# Altium integrated library Linear Technology Power Management LDO Linear Regulators.IntLib: 2339 symbols (part 121 of 131)
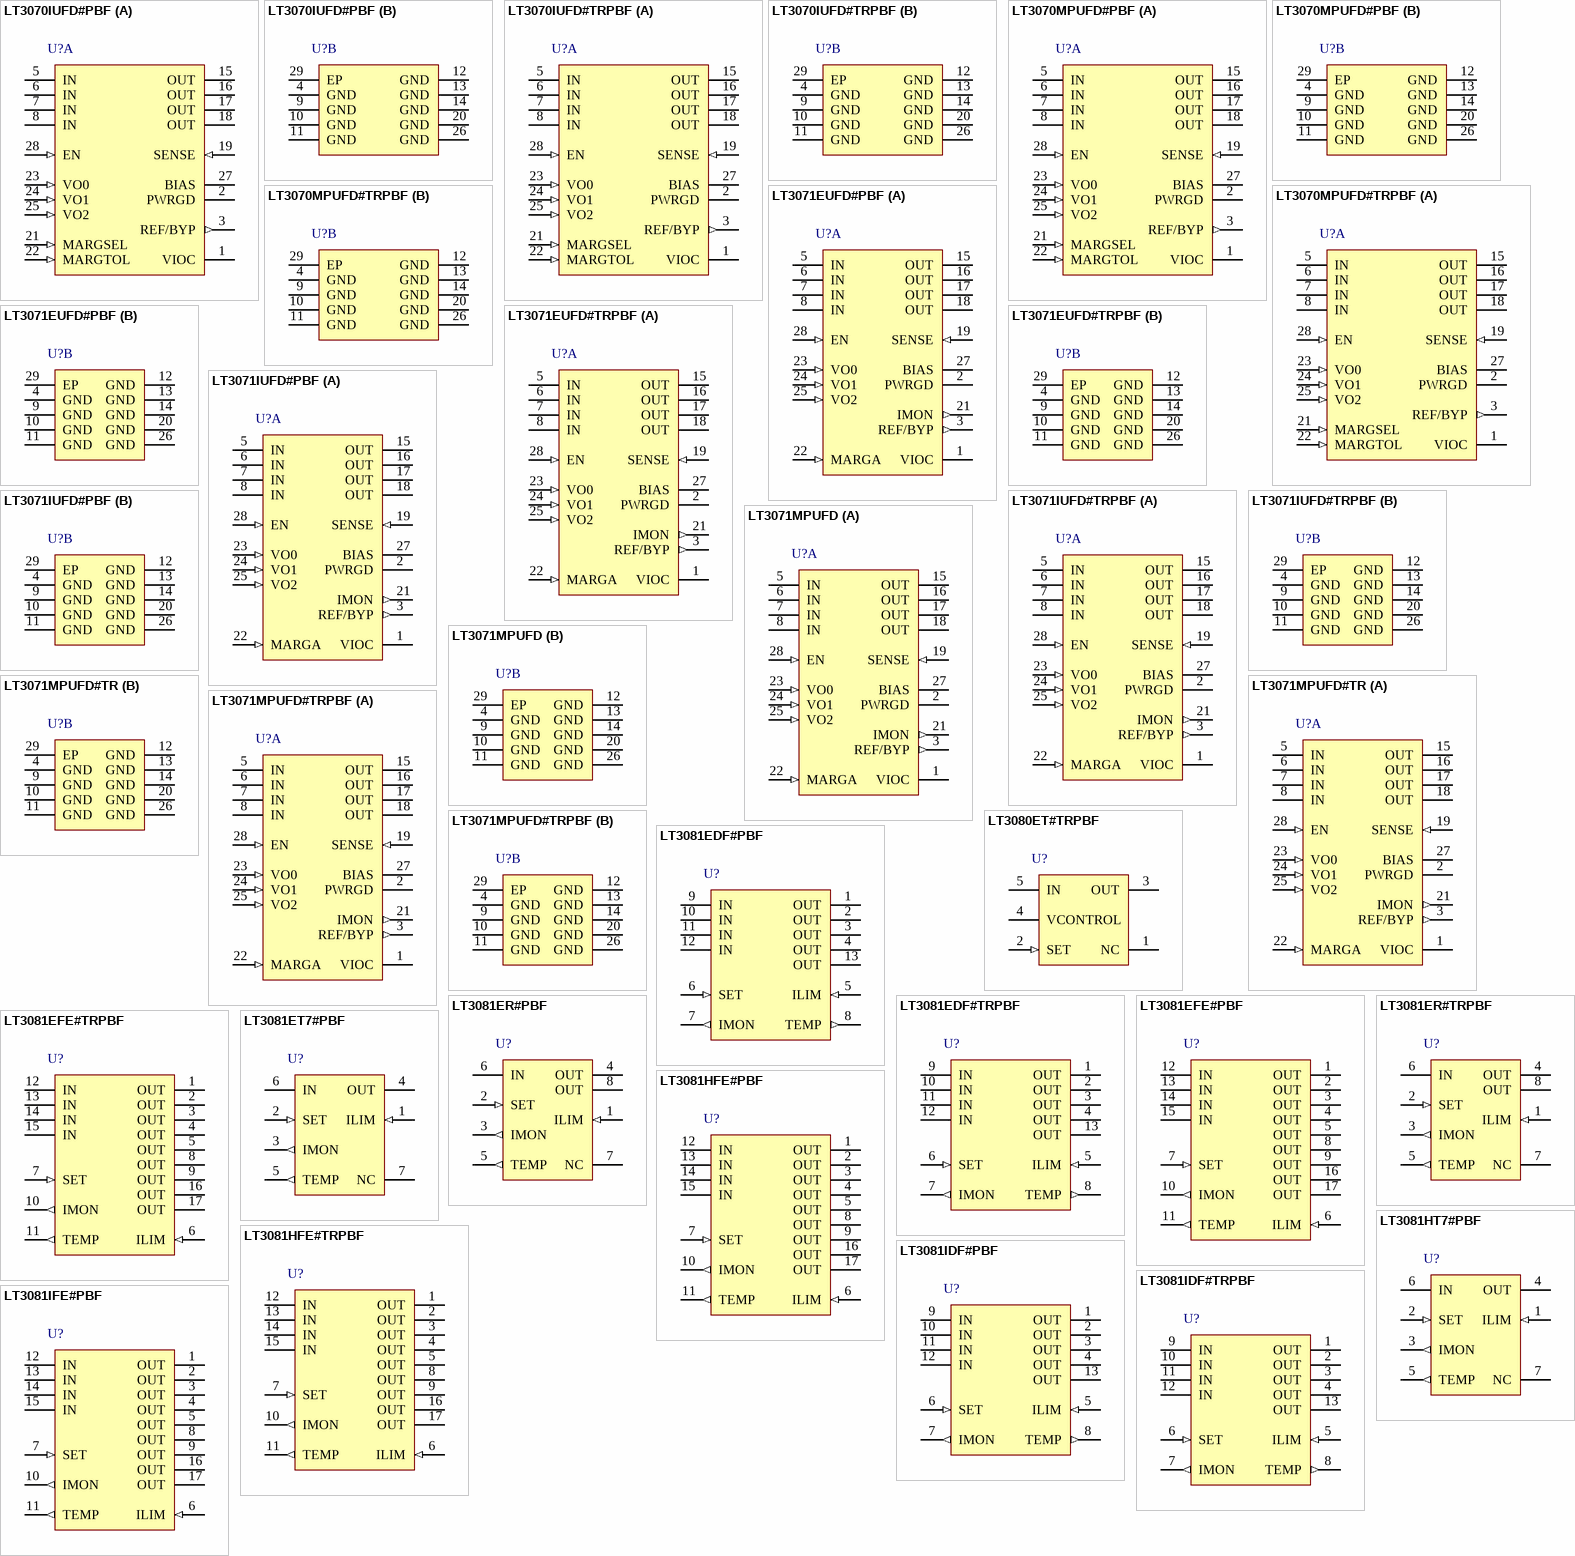
[diagram p189: symbols LT3070IUFD#PBF to LT3081IFE#PBF]

## LT3081ER#TRPBF
designator U?
1.5 A Single Resistor Rugged Linear Regulator with Monitor, 1.2 to 36 V Vin, Adjustable Vout, 7-pin DPAK (R-7), -40 to 125 degC, Pb-Free, Tape and Reel; Manufacturer: Linear Technology; PartNumber: LT3081ER#TRPBF; Discrete Pass Element: no; Dropout Voltage(V): 1.21; Iout(mA): 1500; Isupply(mA): 1.1; Noise(uV): 27; Number of Outputs: 1; Output Voltage: Adj; PSRR(dB): 90; Vin Max(V): 36; Vin Min(V): 1.2; Vout Max(V): 34.5; Vout Min(V): 0; PackageVersion: Rev. F, 05/2012; PackageReference: R-7; PackageDescription: 7-Pin Plastic DD Pak, Body 10.2235 x 8.89 mm, Pitch 1.27 mm; Supplier 1: Digi-Key; Supplier Part Number 1: LT3081ER#TRPBF-ND; Supplier 2: Newark; Supplier Part Number 2: 94W8443; Packing: Tape and Reel; RoHS: TRUE; Mounting Technology: Surface Mount; ComponentLink1Description: Manufacturer URL; ComponentLink1URL: http://www.linear.com/; ComponentLink2Description: Datasheet; ComponentLink2URL: http://cds.linear.com/docs/en/datasheet/3081f.pdf; ComponentLink3Description: Package Specification; ComponentLink3URL: http://cds.linear.com/docs/en/packaging/05081462_F_R.pdf
footprint LT-R-7_N (DPAK, 7-Leads, Body 10.224x8.89mm, Pitch 1.27mm, IPC Medium Density)
footprint LT-R-7_L (DPAK, 7-Leads, Body 10.224x8.89mm, Pitch 1.27mm, IPC High Density)
footprint LT-R-7_M (DPAK, 7-Leads, Body 10.224x8.89mm, Pitch 1.27mm, IPC Low Density)
pins: 1 ILIM (in) "Current Limit Program. A resistor between this pin and OUT programs output current limit to a level proportional to resistor value. Connect this resistor directly to OUT at the pins of the package. The typical ratio of (See Datasheet)", 2 SET (in) "Set. This pin is the error amplifier’s noninverting input and also sets the operating bias point of the circuit. A fixed 50uA current source flows out of this pin. A single external resistor programs VOUT. Output voltag(See Datasheet)", 3 IMON (out) "Output Current Monitor. The IMON pin sources a current typically equal to ILOAD/5000 or 200uA per amp of output current. Terminating this pin with a resistor to GND produces a voltage proportional to ILOAD. For example, at (See Datasheet)", 4 OUT (power) "Output. This is the power output of the device. The LT3081 requires a 5mA minimum load current for proper output regulation.", 5 TEMP (out) "Temperature Output. This pin delivers a current proportional to the internal average junction temperature. Current output is 1uA/degC for temperatures above 5degC. The TEMP pin output current typically equals 25uA at 25degC. (See Datasheet)", 6 IN (power) "Input. This pin supplies power to regulate internal circuitry and supply output load current. For the device to operate properly and regulate, the voltage on this pin must be between the dropout voltage and 36V above the OUT (See Datasheet)", 7 NC "No Connection. No connect pins have no connection to internal circuitry and may be tied to IN, OUT, GND or floated.", 8 OUT (power) "Output. The exposed pad of the DF and FE packages and the tab of the R and T7 packages are tied internally to OUT. As such, tie them directly to OUT (Pins 1-4/Pins 1-5, 8, 9, 16/Pin 4/Pin 4) at the PCB. The amount of copper (See Datasheet)"

## LT3081ET7#PBF
designator U?
1.5 A Single Resistor Rugged Linear Regulator with Monitor, 1.2 to 36 V Vin, Adjustable Vout, 7-pin FM (T7-7-S), -40 to 125 degC, Pb-Free; Manufacturer: Linear Technology; PartNumber: LT3081ET7#PBF; Discrete Pass Element: no; Dropout Voltage(V): 1.21; Iout(mA): 1500; Isupply(mA): 1.1; Noise(uV): 27; Number of Outputs: 1; Output Voltage: Adj; PSRR(dB): 90; Vin Max(V): 36; Vin Min(V): 1.2; Vout Max(V): 34.5; Vout Min(V): 0; PackageVersion: Jun-10; PackageReference: T7-7; PackageDescription: 7-Pin Plastic TO-220 (Straight Lead), Body 10.224 x 4.382 mm, Pitch 1.27 mm; Supplier 1: Digi-Key; Supplier Part Number 1: LT3081ET7#PBF-ND; Supplier 2: Newark; Supplier Part Number 2: 94W8444; RoHS: TRUE; Mounting Technology: Through Hole; ComponentLink1Description: Manufacturer URL; ComponentLink1URL: http://www.linear.com/; ComponentLink2Description: Datasheet; ComponentLink2URL: http://cds.linear.com/docs/en/datasheet/3081f.pdf; ComponentLink3Description: Package Specification; ComponentLink3URL: http://www.linear.com/docs/en/packaging/TO-220_7_05-08-1422_STRAIGHT_LEAD.pdf
footprint LT-T7-7-S_V (FM, 7-Leads, Body 10.55x4.6mm, Pitch 1.27mm)
pins: 1 ILIM (in) "Current Limit Program. A resistor between this pin and OUT programs output current limit to a level proportional to resistor value. Connect this resistor directly to OUT at the pins of the package. The typical ratio of (See Datasheet)", 2 SET (in) "Set. This pin is the error amplifier’s noninverting input and also sets the operating bias point of the circuit. A fixed 50uA current source flows out of this pin. A single external resistor programs VOUT. Output voltag(See Datasheet)", 3 IMON (out) "Output Current Monitor. The IMON pin sources a current typically equal to ILOAD/5000 or 200uA per amp of output current. Terminating this pin with a resistor to GND produces a voltage proportional to ILOAD. For example, at (See Datasheet)", 4 OUT (power) "Output. This is the power output of the device. The LT3081 requires a 5mA minimum load current for proper output regulation.", 5 TEMP (out) "Temperature Output. This pin delivers a current proportional to the internal average junction temperature. Current output is 1uA/degC for temperatures above 5degC. The TEMP pin output current typically equals 25uA at 25degC. (See Datasheet)", 6 IN (power) "Input. This pin supplies power to regulate internal circuitry and supply output load current. For the device to operate properly and regulate, the voltage on this pin must be between the dropout voltage and 36V above the OUT (See Datasheet)", 7 NC "No Connection. No connect pins have no connection to internal circuitry and may be tied to IN, OUT, GND or floated."

## LT3081HFE#PBF
designator U?
1.5 A Single Resistor Rugged Linear Regulator with Monitor, 1.2 to 36 V Vin, Adjustable Vout, 16-pin SOP (FE-16-EPV-BB), -40 to 150 degC, Pb-Free; Manufacturer: Linear Technology; PartNumber: LT3081HFE#PBF; Discrete Pass Element: no; Dropout Voltage(V): 1.21; Iout(mA): 1500; Isupply(mA): 1.1; Noise(uV): 27; Number of Outputs: 1; Output Voltage: Adj; PSRR(dB): 90; Vin Max(V): 36; Vin Min(V): 1.2; Vout Max(V): 34.5; Vout Min(V): 0; PackageVersion: Rev. J, 11/2012; PackageReference: FE-16; PackageDescription: 16-Pin Plastic TSSOP, Body 5 x 4.4 mm, Pitch 0.65 mm; Supplier 1: Newark; Supplier Part Number 1: 94W8445; RoHS: TRUE; Mounting Technology: Surface Mount; ComponentLink1Description: Manufacturer URL; ComponentLink1URL: http://www.linear.com/; ComponentLink2Description: Datasheet; ComponentLink2URL: http://cds.linear.com/docs/en/datasheet/3081f.pdf; ComponentLink3Description: Package Specification; ComponentLink3URL: http://cds.linear.com/docs/en/packaging/05081663__J_FE16(BB).pdf
footprint LT-FE-16-EPV-BB_N (SOP, 16-Leads, Body 5.1x4.5mm, Pitch 0.65mm, Thermal Pad 3.58x2.94mm, IPC Medium Density)
footprint LT-FE-16-EPV-BB_L (SOP, 16-Leads, Body 5.1x4.5mm, Pitch 0.65mm, Thermal Pad 3.58x2.94mm, IPC High Density)
footprint LT-FE-16-EPV-BB_M (SOP, 16-Leads, Body 5.1x4.5mm, Pitch 0.65mm, Thermal Pad 3.58x2.94mm, IPC Low Density)
pins: 1 OUT (power) "Output. This is the power output of the device. The LT3081 requires a 5mA minimum load current for proper output regulation.", 2 OUT (power) "Output. This is the power output of the device. The LT3081 requires a 5mA minimum load current for proper output regulation.", 3 OUT (power) "Output. This is the power output of the device. The LT3081 requires a 5mA minimum load current for proper output regulation.", 4 OUT (power) "Output. This is the power output of the device. The LT3081 requires a 5mA minimum load current for proper output regulation.", 5 OUT (power) "Output. This is the power output of the device. The LT3081 requires a 5mA minimum load current for proper output regulation.", 6 ILIM (in) "Current Limit Program. A resistor between this pin and OUT programs output current limit to a level proportional to resistor value. Connect this resistor directly to OUT at the pins of the package. The typical ratio of (See Datasheet)", 7 SET (in) "Set. This pin is the error amplifier’s noninverting input and also sets the operating bias point of the circuit. A fixed 50uA current source flows out of this pin. A single external resistor programs VOUT. Output voltag(See Datasheet)", 8 OUT (power) "Output. This is the power output of the device. The LT3081 requires a 5mA minimum load current for proper output regulation.", 9 OUT (power) "Output. This is the power output of the device. The LT3081 requires a 5mA minimum load current for proper output regulation.", 10 IMON (out) "Output Current Monitor. The IMON pin sources a current typically equal to ILOAD/5000 or 200uA per amp of output current. Terminating this pin with a resistor to GND produces a voltage proportional to ILOAD. For example, at (See Datasheet)", 11 TEMP (out) "Temperature Output. This pin delivers a current proportional to the internal average junction temperature. Current output is 1uA/degreesC for temperatures above 5degreesC. The TEMP pin output current typically equals 25uA at (See Datasheet)", 12 IN (power) "Input. This pin supplies power to regulate internal circuitry and supply output load current. For the device to operate properly and regulate, the voltage on this pin must be between the dropout voltage and 36V above the OUT (See Datasheet)", 13 IN (power) "Input. This pin supplies power to regulate internal circuitry and supply output load current. For the device to operate properly and regulate, the voltage on this pin must be between the dropout voltage and 36V above the OUT (See Datasheet)", 14 IN (power) "Input. This pin supplies power to regulate internal circuitry and supply output load current. For the device to operate properly and regulate, the voltage on this pin must be between the dropout voltage and 36V above the OUT (See Datasheet)", 15 IN (power) "Input. This pin supplies power to regulate internal circuitry and supply output load current. For the device to operate properly and regulate, the voltage on this pin must be between the dropout voltage and 36V above the OUT (See Datasheet)", 16 OUT (power) "Output. This is the power output of the device. The LT3081 requires a 5mA minimum load current for proper output regulation.", 17 OUT (power) "Output. The exposed pad of the DF and FE packages and the tab of the R and T7 packages are tied internally to OUT. As such, tie them directly to OUT (Pins 1-4/Pins 1-5, 8, 9, 16/Pin 4/Pin 4) at the PCB. The amount of copper (See Datasheet)"

## LT3081HFE#TRPBF
designator U?
1.5 A Single Resistor Rugged Linear Regulator with Monitor, 1.2 to 36 V Vin, Adjustable Vout, 16-pin SOP (FE-16-EPV-BB), -40 to 150 degC, Pb-Free, Tape and Reel; Manufacturer: Linear Technology; PartNumber: LT3081HFE#TRPBF; Discrete Pass Element: no; Dropout Voltage(V): 1.21; Iout(mA): 1500; Isupply(mA): 1.1; Noise(uV): 27; Number of Outputs: 1; Output Voltage: Adj; PSRR(dB): 90; Vin Max(V): 36; Vin Min(V): 1.2; Vout Max(V): 34.5; Vout Min(V): 0; PackageVersion: Rev. J, 11/2012; PackageReference: FE-16; PackageDescription: 16-Pin Plastic TSSOP, Body 5 x 4.4 mm, Pitch 0.65 mm; Supplier 1: Digi-Key; Supplier Part Number 1: LT3081HFE#TRPBF-ND; Supplier 2: Newark; Supplier Part Number 2: 94W8446; Packing: Tape and Reel; RoHS: TRUE; Mounting Technology: Surface Mount; ComponentLink1Description: Manufacturer URL; ComponentLink1URL: http://www.linear.com/; ComponentLink2Description: Datasheet; ComponentLink2URL: http://cds.linear.com/docs/en/datasheet/3081f.pdf; ComponentLink3Description: Package Specification; ComponentLink3URL: http://cds.linear.com/docs/en/packaging/05081663__J_FE16(BB).pdf
footprint LT-FE-16-EPV-BB_N (SOP, 16-Leads, Body 5.1x4.5mm, Pitch 0.65mm, Thermal Pad 3.58x2.94mm, IPC Medium Density)
footprint LT-FE-16-EPV-BB_L (SOP, 16-Leads, Body 5.1x4.5mm, Pitch 0.65mm, Thermal Pad 3.58x2.94mm, IPC High Density)
footprint LT-FE-16-EPV-BB_M (SOP, 16-Leads, Body 5.1x4.5mm, Pitch 0.65mm, Thermal Pad 3.58x2.94mm, IPC Low Density)
pins: 1 OUT (power) "Output. This is the power output of the device. The LT3081 requires a 5mA minimum load current for proper output regulation.", 2 OUT (power) "Output. This is the power output of the device. The LT3081 requires a 5mA minimum load current for proper output regulation.", 3 OUT (power) "Output. This is the power output of the device. The LT3081 requires a 5mA minimum load current for proper output regulation.", 4 OUT (power) "Output. This is the power output of the device. The LT3081 requires a 5mA minimum load current for proper output regulation.", 5 OUT (power) "Output. This is the power output of the device. The LT3081 requires a 5mA minimum load current for proper output regulation.", 6 ILIM (in) "Current Limit Program. A resistor between this pin and OUT programs output current limit to a level proportional to resistor value. Connect this resistor directly to OUT at the pins of the package. The typical ratio of (See Datasheet)", 7 SET (in) "Set. This pin is the error amplifier’s noninverting input and also sets the operating bias point of the circuit. A fixed 50uA current source flows out of this pin. A single external resistor programs VOUT. Output voltag(See Datasheet)", 8 OUT (power) "Output. This is the power output of the device. The LT3081 requires a 5mA minimum load current for proper output regulation.", 9 OUT (power) "Output. This is the power output of the device. The LT3081 requires a 5mA minimum load current for proper output regulation.", 10 IMON (out) "Output Current Monitor. The IMON pin sources a current typically equal to ILOAD/5000 or 200uA per amp of output current. Terminating this pin with a resistor to GND produces a voltage proportional to ILOAD. For example, at (See Datasheet)", 11 TEMP (out) "Temperature Output. This pin delivers a current proportional to the internal average junction temperature. Current output is 1uA/degreesC for temperatures above 5degreesC. The TEMP pin output current typically equals 25uA at (See Datasheet)", 12 IN (power) "Input. This pin supplies power to regulate internal circuitry and supply output load current. For the device to operate properly and regulate, the voltage on this pin must be between the dropout voltage and 36V above the OUT (See Datasheet)", 13 IN (power) "Input. This pin supplies power to regulate internal circuitry and supply output load current. For the device to operate properly and regulate, the voltage on this pin must be between the dropout voltage and 36V above the OUT (See Datasheet)", 14 IN (power) "Input. This pin supplies power to regulate internal circuitry and supply output load current. For the device to operate properly and regulate, the voltage on this pin must be between the dropout voltage and 36V above the OUT (See Datasheet)", 15 IN (power) "Input. This pin supplies power to regulate internal circuitry and supply output load current. For the device to operate properly and regulate, the voltage on this pin must be between the dropout voltage and 36V above the OUT (See Datasheet)", 16 OUT (power) "Output. This is the power output of the device. The LT3081 requires a 5mA minimum load current for proper output regulation.", 17 OUT (power) "Output. The exposed pad of the DF and FE packages and the tab of the R and T7 packages are tied internally to OUT. As such, tie them directly to OUT (Pins 1-4/Pins 1-5, 8, 9, 16/Pin 4/Pin 4) at the PCB. The amount of copper (See Datasheet)"

## LT3081HT7#PBF
designator U?
1.5 A Single Resistor Rugged Linear Regulator with Monitor, 1.2 to 36 V Vin, Adjustable Vout, 7-pin FM (T7-7), -40 to 150 degC, Pb-Free; Manufacturer: Linear Technology; PartNumber: LT3081HT7#PBF; Discrete Pass Element: no; Dropout Voltage(V): 1.21; Iout(mA): 1500; Isupply(mA): 1.1; Noise(uV): 27; Number of Outputs: 1; Output Voltage: Adj; PSRR(dB): 90; Vin Max(V): 36; Vin Min(V): 1.2; Vout Max(V): 34.5; Vout Min(V): 0; PackageVersion: Jun-10; PackageReference: T7-7; PackageDescription: 7-Pin Plastic TO-220 (Straight Lead), Body 10.224 x 4.382 mm, Pitch 1.27 mm; Supplier 1: Newark; Supplier Part Number 1: 94W8447; RoHS: TRUE; Mounting Technology: Through Hole; ComponentLink1Description: Manufacturer URL; ComponentLink1URL: http://www.linear.com/; ComponentLink2Description: Datasheet; ComponentLink2URL: http://cds.linear.com/docs/en/datasheet/3081f.pdf; ComponentLink3Description: Package Specification; ComponentLink3URL: http://www.linear.com/docs/en/packaging/TO-220_7_05-08-1422_STRAIGHT_LEAD.pdf
footprint LT-T7-7-S_V (FM, 7-Leads, Body 10.55x4.6mm, Pitch 1.27mm)
pins: 1 ILIM (in) "Current Limit Program. A resistor between this pin and OUT programs output current limit to a level proportional to resistor value. Connect this resistor directly to OUT at the pins of the package. The typical ratio of (See Datasheet)", 2 SET (in) "Set. This pin is the error amplifier’s noninverting input and also sets the operating bias point of the circuit. A fixed 50uA current source flows out of this pin. A single external resistor programs VOUT. Output voltag(See Datasheet)", 3 IMON (out) "Output Current Monitor. The IMON pin sources a current typically equal to ILOAD/5000 or 200uA per amp of output current. Terminating this pin with a resistor to GND produces a voltage proportional to ILOAD. For example, at (See Datasheet)", 4 OUT (power) "Output. This is the power output of the device. The LT3081 requires a 5mA minimum load current for proper output regulation.", 5 TEMP (out) "Temperature Output. This pin delivers a current proportional to the internal average junction temperature. Current output is 1uA/degC for temperatures above 5degC. The TEMP pin output current typically equals 25uA at 25degC. (See Datasheet)", 6 IN (power) "Input. This pin supplies power to regulate internal circuitry and supply output load current. For the device to operate properly and regulate, the voltage on this pin must be between the dropout voltage and 36V above the OUT (See Datasheet)", 7 NC "No Connection. No connect pins have no connection to internal circuitry and may be tied to IN, OUT, GND or floated."

## LT3081IDF#PBF
designator U?
1.5 A Single Resistor Rugged Linear Regulator with Monitor, 1.2 to 36 V Vin, Adjustable Vout, 12-pin SON (DF-12), -40 to 125 degC, Pb-Free; Manufacturer: Linear Technology; PartNumber: LT3081IDF#PBF; Discrete Pass Element: no; Dropout Voltage(V): 1.21; Iout(mA): 1500; Isupply(mA): 1.1; Noise(uV): 27; Number of Outputs: 1; Output Voltage: Adj; PSRR(dB): 90; Vin Max(V): 36; Vin Min(V): 1.2; Vout Max(V): 34.5; Vout Min(V): 0; PackageVersion: Rev. Ø, 06/2010; PackageReference: DF-12; PackageDescription: 12-Pin Plastic DFN, Body 4 x 4 mm, Pitch 0.5 mm; Supplier 1: Digi-Key; Supplier Part Number 1: LT3081IDF#PBF-ND; Supplier 2: Newark; Supplier Part Number 2: 94W8448; RoHS: TRUE; Mounting Technology: Surface Mount; Code_JEDEC: MO-220; ComponentLink1Description: Manufacturer URL; ComponentLink1URL: http://www.linear.com/; ComponentLink2Description: Datasheet; ComponentLink2URL: http://cds.linear.com/docs/en/datasheet/3081f.pdf; ComponentLink3Description: Package Specification; ComponentLink3URL: http://cds.linear.com/docs/Packaging/DFN_12_05-08-1733.pdf
footprint LT-DF-12_V (SON, 12-Leads, Body 4x4mm, Pitch 0.5mm, Thermal Pad 2.65x3.38mm)
pins: 1 OUT (power) "Output. This is the power output of the device. The LT3081 requires a 5mA minimum load current for proper output regulation.", 2 OUT (power) "Output. This is the power output of the device. The LT3081 requires a 5mA minimum load current for proper output regulation.", 3 OUT (power) "Output. This is the power output of the device. The LT3081 requires a 5mA minimum load current for proper output regulation.", 4 OUT (power) "Output. This is the power output of the device. The LT3081 requires a 5mA minimum load current for proper output regulation.", 5 ILIM (in) "Current Limit Program. A resistor between this pin and OUT programs output current limit to a level proportional to resistor value. Connect this resistor directly to OUT at the pins of the package. The typical ratio of (See Datasheet)", 6 SET (in) "Set. This pin is the error amplifier's noninverting input and also sets the operating bias point of the circuit. A fixed 50uA current source flows out of this pin. A single external resistor programs VOUT. Output voltag(See Datasheet)", 7 IMON (out) "Output Current Monitor. The IMON pin sources a current typically equal to ILOAD/5000 or 200uA per amp of output current. Terminating this pin with a resistor to GND produces a voltage proportional to ILOAD. For example, at (See Datasheet)", 8 TEMP (out) "Temperature Output. This pin delivers a current proportional to the internal average junction temperature. Current output is 1uA/degreesC for temperatures above 5degreesC. The TEMP pin output current typically equals 25uA at (See Datasheet)", 9 IN (power) "Input. This pin supplies power to regulate internal circuitry and supply output load current. For the device to operate properly and regulate, the voltage on this pin must be between the dropout voltage and 36V above the OUT (See Datasheet)", 10 IN (power) "Input. This pin supplies power to regulate internal circuitry and supply output load current. For the device to operate properly and regulate, the voltage on this pin must be between the dropout voltage and 36V above the OUT (See Datasheet)", 11 IN (power) "Input. This pin supplies power to regulate internal circuitry and supply output load current. For the device to operate properly and regulate, the voltage on this pin must be between the dropout voltage and 36V above the OUT (See Datasheet)", 12 IN (power) "Input. This pin supplies power to regulate internal circuitry and supply output load current. For the device to operate properly and regulate, the voltage on this pin must be between the dropout voltage and 36V above the OUT (See Datasheet)", 13 OUT (power) "Output. The exposed pad of the DF and FE packages and the tab of the R and T7 packages are tied internally to OUT. As such, tie them directly to OUT (Pins 1-4/Pins 1-5, 8, 9, 16/Pin 4/Pin 4) at the PCB. The amount of copper (See Datasheet)"

## LT3081IDF#TRPBF
designator U?
1.5 A Single Resistor Rugged Linear Regulator with Monitor, 1.2 to 36 V Vin, Adjustable Vout, 12-pin SON (DF-12), -40 to 125 degC, Pb-Free, Tape and Reel; Manufacturer: Linear Technology; PartNumber: LT3081IDF#TRPBF; Discrete Pass Element: no; Dropout Voltage(V): 1.21; Iout(mA): 1500; Isupply(mA): 1.1; Noise(uV): 27; Number of Outputs: 1; Output Voltage: Adj; PSRR(dB): 90; Vin Max(V): 36; Vin Min(V): 1.2; Vout Max(V): 34.5; Vout Min(V): 0; PackageVersion: Rev. Ø, 06/2010; PackageReference: DF-12; PackageDescription: 12-Pin Plastic DFN, Body 4 x 4 mm, Pitch 0.5 mm; Supplier 1: Digi-Key; Supplier Part Number 1: LT3081IDF#TRPBF-ND; Supplier 2: Newark; Supplier Part Number 2: 94W8449; Packing: Tape and Reel; RoHS: TRUE; Mounting Technology: Surface Mount; Code_JEDEC: MO-220; ComponentLink1Description: Manufacturer URL; ComponentLink1URL: http://www.linear.com/; ComponentLink2Description: Datasheet; ComponentLink2URL: http://cds.linear.com/docs/en/datasheet/3081f.pdf; ComponentLink3Description: Package Specification; ComponentLink3URL: http://cds.linear.com/docs/Packaging/DFN_12_05-08-1733.pdf
footprint LT-DF-12_V (SON, 12-Leads, Body 4x4mm, Pitch 0.5mm, Thermal Pad 2.65x3.38mm)
pins: 1 OUT (power) "Output. This is the power output of the device. The LT3081 requires a 5mA minimum load current for proper output regulation.", 2 OUT (power) "Output. This is the power output of the device. The LT3081 requires a 5mA minimum load current for proper output regulation.", 3 OUT (power) "Output. This is the power output of the device. The LT3081 requires a 5mA minimum load current for proper output regulation.", 4 OUT (power) "Output. This is the power output of the device. The LT3081 requires a 5mA minimum load current for proper output regulation.", 5 ILIM (in) "Current Limit Program. A resistor between this pin and OUT programs output current limit to a level proportional to resistor value. Connect this resistor directly to OUT at the pins of the package. The typical ratio of (See Datasheet)", 6 SET (in) "Set. This pin is the error amplifier's noninverting input and also sets the operating bias point of the circuit. A fixed 50uA current source flows out of this pin. A single external resistor programs VOUT. Output voltag(See Datasheet)", 7 IMON (out) "Output Current Monitor. The IMON pin sources a current typically equal to ILOAD/5000 or 200uA per amp of output current. Terminating this pin with a resistor to GND produces a voltage proportional to ILOAD. For example, at (See Datasheet)", 8 TEMP (out) "Temperature Output. This pin delivers a current proportional to the internal average junction temperature. Current output is 1uA/degreesC for temperatures above 5degreesC. The TEMP pin output current typically equals 25uA at (See Datasheet)", 9 IN (power) "Input. This pin supplies power to regulate internal circuitry and supply output load current. For the device to operate properly and regulate, the voltage on this pin must be between the dropout voltage and 36V above the OUT (See Datasheet)", 10 IN (power) "Input. This pin supplies power to regulate internal circuitry and supply output load current. For the device to operate properly and regulate, the voltage on this pin must be between the dropout voltage and 36V above the OUT (See Datasheet)", 11 IN (power) "Input. This pin supplies power to regulate internal circuitry and supply output load current. For the device to operate properly and regulate, the voltage on this pin must be between the dropout voltage and 36V above the OUT (See Datasheet)", 12 IN (power) "Input. This pin supplies power to regulate internal circuitry and supply output load current. For the device to operate properly and regulate, the voltage on this pin must be between the dropout voltage and 36V above the OUT (See Datasheet)", 13 OUT (power) "Output. The exposed pad of the DF and FE packages and the tab of the R and T7 packages are tied internally to OUT. As such, tie them directly to OUT (Pins 1-4/Pins 1-5, 8, 9, 16/Pin 4/Pin 4) at the PCB. The amount of copper (See Datasheet)"

## LT3081IFE#PBF
designator U?
1.5 A Single Resistor Rugged Linear Regulator with Monitor, 1.2 to 36 V Vin, Adjustable Vout, 16-pin SOP (FE-16-EPV-BB), -40 to 125 degC, Pb-Free; Manufacturer: Linear Technology; PartNumber: LT3081IFE#PBF; Discrete Pass Element: no; Dropout Voltage(V): 1.21; Iout(mA): 1500; Isupply(mA): 1.1; Noise(uV): 27; Number of Outputs: 1; Output Voltage: Adj; PSRR(dB): 90; Vin Max(V): 36; Vin Min(V): 1.2; Vout Max(V): 34.5; Vout Min(V): 0; PackageVersion: Rev. J, 11/2012; PackageReference: FE-16; PackageDescription: 16-Pin Plastic TSSOP, Body 5 x 4.4 mm, Pitch 0.65 mm; Supplier 1: Digi-Key; Supplier Part Number 1: LT3081IFE#PBF-ND; Supplier 2: Newark; Supplier Part Number 2: 94W8450; RoHS: TRUE; Mounting Technology: Surface Mount; ComponentLink1Description: Manufacturer URL; ComponentLink1URL: http://www.linear.com/; ComponentLink2Description: Datasheet; ComponentLink2URL: http://cds.linear.com/docs/en/datasheet/3081f.pdf; ComponentLink3Description: Package Specification; ComponentLink3URL: http://cds.linear.com/docs/en/packaging/05081663__J_FE16(BB).pdf
footprint LT-FE-16-EPV-BB_N (SOP, 16-Leads, Body 5.1x4.5mm, Pitch 0.65mm, Thermal Pad 3.58x2.94mm, IPC Medium Density)
footprint LT-FE-16-EPV-BB_L (SOP, 16-Leads, Body 5.1x4.5mm, Pitch 0.65mm, Thermal Pad 3.58x2.94mm, IPC High Density)
footprint LT-FE-16-EPV-BB_M (SOP, 16-Leads, Body 5.1x4.5mm, Pitch 0.65mm, Thermal Pad 3.58x2.94mm, IPC Low Density)
pins: 1 OUT (power) "Output. This is the power output of the device. The LT3081 requires a 5mA minimum load current for proper output regulation.", 2 OUT (power) "Output. This is the power output of the device. The LT3081 requires a 5mA minimum load current for proper output regulation.", 3 OUT (power) "Output. This is the power output of the device. The LT3081 requires a 5mA minimum load current for proper output regulation.", 4 OUT (power) "Output. This is the power output of the device. The LT3081 requires a 5mA minimum load current for proper output regulation.", 5 OUT (power) "Output. This is the power output of the device. The LT3081 requires a 5mA minimum load current for proper output regulation.", 6 ILIM (in) "Current Limit Program. A resistor between this pin and OUT programs output current limit to a level proportional to resistor value. Connect this resistor directly to OUT at the pins of the package. The typical ratio of (See Datasheet)", 7 SET (in) "Set. This pin is the error amplifier’s noninverting input and also sets the operating bias point of the circuit. A fixed 50uA current source flows out of this pin. A single external resistor programs VOUT. Output voltag(See Datasheet)", 8 OUT (power) "Output. This is the power output of the device. The LT3081 requires a 5mA minimum load current for proper output regulation.", 9 OUT (power) "Output. This is the power output of the device. The LT3081 requires a 5mA minimum load current for proper output regulation.", 10 IMON (out) "Output Current Monitor. The IMON pin sources a current typically equal to ILOAD/5000 or 200uA per amp of output current. Terminating this pin with a resistor to GND produces a voltage proportional to ILOAD. For example, at (See Datasheet)", 11 TEMP (out) "Temperature Output. This pin delivers a current proportional to the internal average junction temperature. Current output is 1uA/degreesC for temperatures above 5degreesC. The TEMP pin output current typically equals 25uA at (See Datasheet)", 12 IN (power) "Input. This pin supplies power to regulate internal circuitry and supply output load current. For the device to operate properly and regulate, the voltage on this pin must be between the dropout voltage and 36V above the OUT (See Datasheet)", 13 IN (power) "Input. This pin supplies power to regulate internal circuitry and supply output load current. For the device to operate properly and regulate, the voltage on this pin must be between the dropout voltage and 36V above the OUT (See Datasheet)", 14 IN (power) "Input. This pin supplies power to regulate internal circuitry and supply output load current. For the device to operate properly and regulate, the voltage on this pin must be between the dropout voltage and 36V above the OUT (See Datasheet)", 15 IN (power) "Input. This pin supplies power to regulate internal circuitry and supply output load current. For the device to operate properly and regulate, the voltage on this pin must be between the dropout voltage and 36V above the OUT (See Datasheet)", 16 OUT (power) "Output. This is the power output of the device. The LT3081 requires a 5mA minimum load current for proper output regulation.", 17 OUT (power) "Output. The exposed pad of the DF and FE packages and the tab of the R and T7 packages are tied internally to OUT. As such, tie them directly to OUT (Pins 1-4/Pins 1-5, 8, 9, 16/Pin 4/Pin 4) at the PCB. The amount of copper (See Datasheet)"

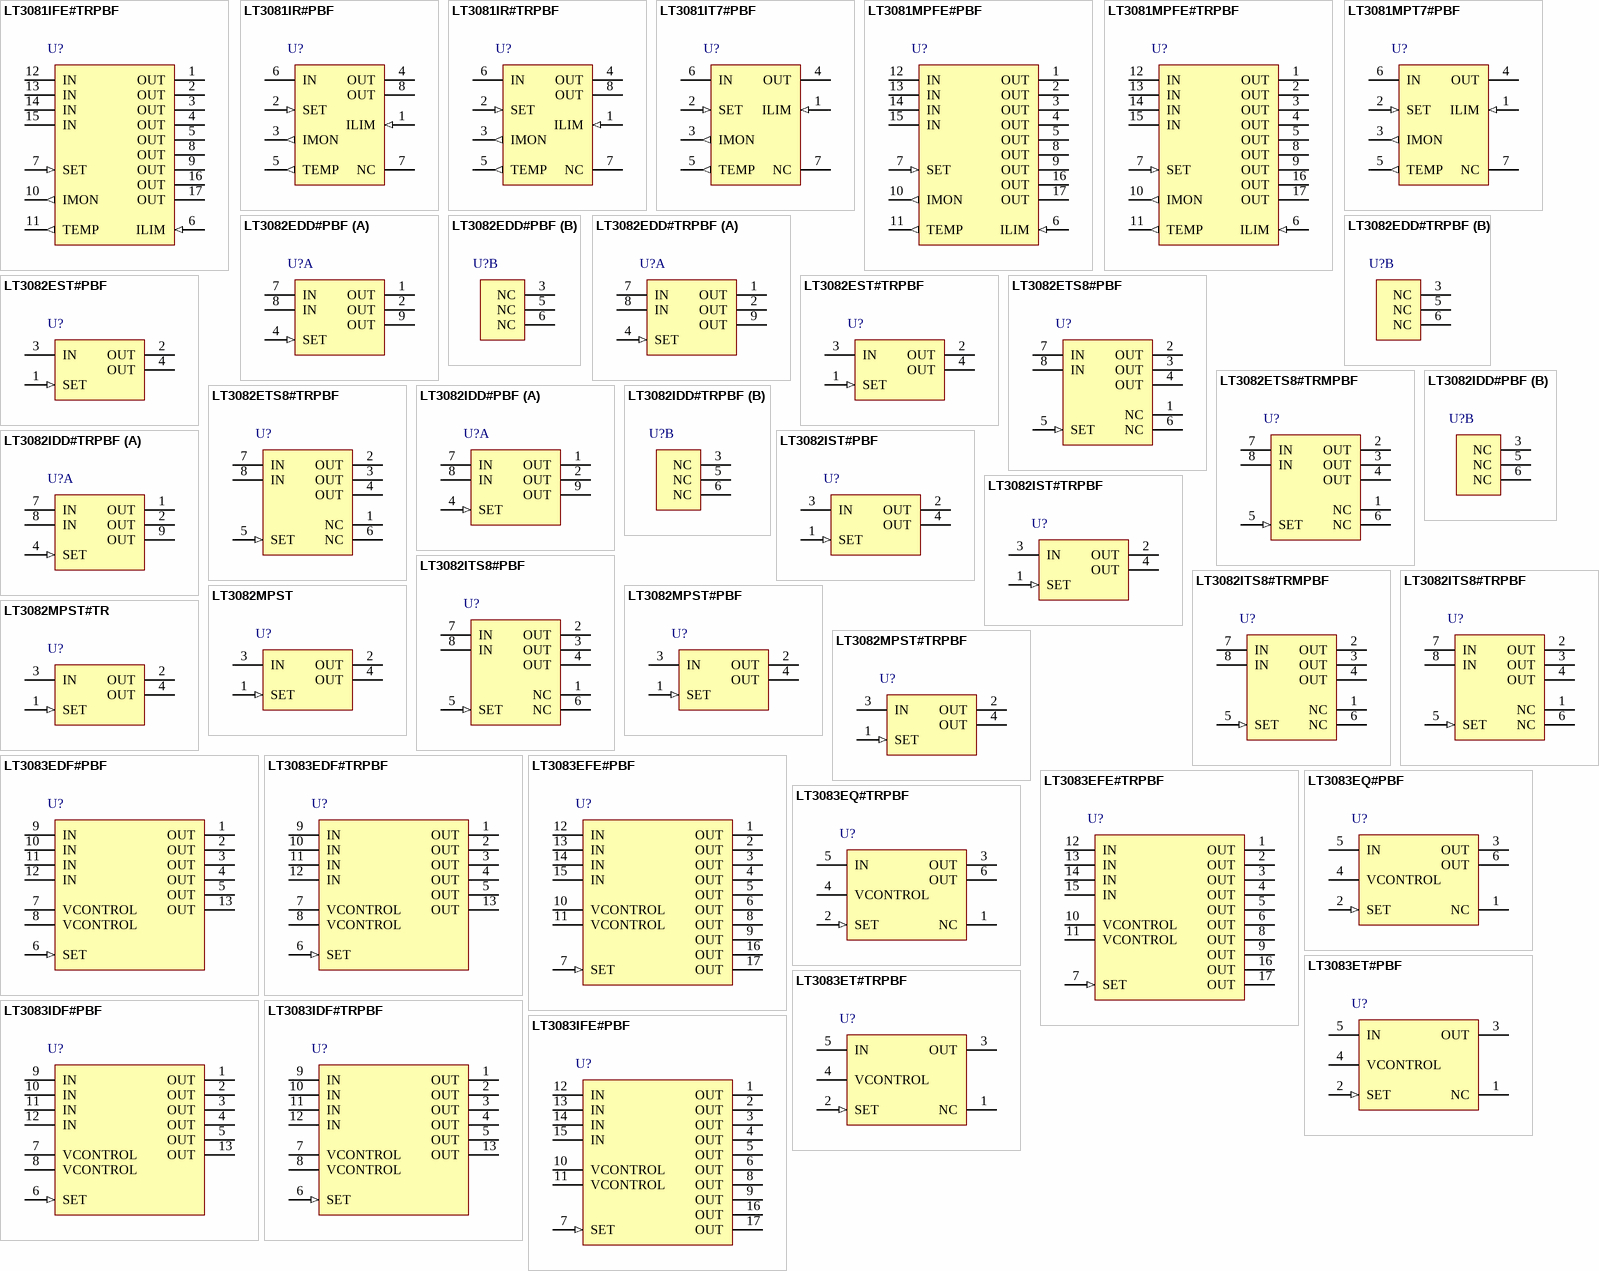
[diagram p65: symbols LT3081IFE#TRPBF to LT3083IFE#PBF]

## LT3081IFE#TRPBF
designator U?
1.5 A Single Resistor Rugged Linear Regulator with Monitor, 1.2 to 36 V Vin, Adjustable Vout, 16-pin SOP (FE-16-EPV-BB), -40 to 125 degC, Pb-Free, Tape and Reel; Manufacturer: Linear Technology; PartNumber: LT3081IFE#TRPBF; Discrete Pass Element: no; Dropout Voltage(V): 1.21; Iout(mA): 1500; Isupply(mA): 1.1; Noise(uV): 27; Number of Outputs: 1; Output Voltage: Adj; PSRR(dB): 90; Vin Max(V): 36; Vin Min(V): 1.2; Vout Max(V): 34.5; Vout Min(V): 0; PackageVersion: Rev. J, 11/2012; PackageReference: FE-16; PackageDescription: 16-Pin Plastic TSSOP, Body 5 x 4.4 mm, Pitch 0.65 mm; Supplier 1: Digi-Key; Supplier Part Number 1: LT3081IFE#TRPBF-ND; Supplier 2: Newark; Supplier Part Number 2: 94W8451; Packing: Tape and Reel; RoHS: TRUE; Mounting Technology: Surface Mount; ComponentLink1Description: Manufacturer URL; ComponentLink1URL: http://www.linear.com/; ComponentLink2Description: Datasheet; ComponentLink2URL: http://cds.linear.com/docs/en/datasheet/3081f.pdf; ComponentLink3Description: Package Specification; ComponentLink3URL: http://cds.linear.com/docs/en/packaging/05081663__J_FE16(BB).pdf
footprint LT-FE-16-EPV-BB_N (SOP, 16-Leads, Body 5.1x4.5mm, Pitch 0.65mm, Thermal Pad 3.58x2.94mm, IPC Medium Density)
footprint LT-FE-16-EPV-BB_L (SOP, 16-Leads, Body 5.1x4.5mm, Pitch 0.65mm, Thermal Pad 3.58x2.94mm, IPC High Density)
footprint LT-FE-16-EPV-BB_M (SOP, 16-Leads, Body 5.1x4.5mm, Pitch 0.65mm, Thermal Pad 3.58x2.94mm, IPC Low Density)
pins: 1 OUT (power) "Output. This is the power output of the device. The LT3081 requires a 5mA minimum load current for proper output regulation.", 2 OUT (power) "Output. This is the power output of the device. The LT3081 requires a 5mA minimum load current for proper output regulation.", 3 OUT (power) "Output. This is the power output of the device. The LT3081 requires a 5mA minimum load current for proper output regulation.", 4 OUT (power) "Output. This is the power output of the device. The LT3081 requires a 5mA minimum load current for proper output regulation.", 5 OUT (power) "Output. This is the power output of the device. The LT3081 requires a 5mA minimum load current for proper output regulation.", 6 ILIM (in) "Current Limit Program. A resistor between this pin and OUT programs output current limit to a level proportional to resistor value. Connect this resistor directly to OUT at the pins of the package. The typical ratio of (See Datasheet)", 7 SET (in) "Set. This pin is the error amplifier’s noninverting input and also sets the operating bias point of the circuit. A fixed 50uA current source flows out of this pin. A single external resistor programs VOUT. Output voltag(See Datasheet)", 8 OUT (power) "Output. This is the power output of the device. The LT3081 requires a 5mA minimum load current for proper output regulation.", 9 OUT (power) "Output. This is the power output of the device. The LT3081 requires a 5mA minimum load current for proper output regulation.", 10 IMON (out) "Output Current Monitor. The IMON pin sources a current typically equal to ILOAD/5000 or 200uA per amp of output current. Terminating this pin with a resistor to GND produces a voltage proportional to ILOAD. For example, at (See Datasheet)", 11 TEMP (out) "Temperature Output. This pin delivers a current proportional to the internal average junction temperature. Current output is 1uA/degreesC for temperatures above 5degreesC. The TEMP pin output current typically equals 25uA at (See Datasheet)", 12 IN (power) "Input. This pin supplies power to regulate internal circuitry and supply output load current. For the device to operate properly and regulate, the voltage on this pin must be between the dropout voltage and 36V above the OUT (See Datasheet)", 13 IN (power) "Input. This pin supplies power to regulate internal circuitry and supply output load current. For the device to operate properly and regulate, the voltage on this pin must be between the dropout voltage and 36V above the OUT (See Datasheet)", 14 IN (power) "Input. This pin supplies power to regulate internal circuitry and supply output load current. For the device to operate properly and regulate, the voltage on this pin must be between the dropout voltage and 36V above the OUT (See Datasheet)", 15 IN (power) "Input. This pin supplies power to regulate internal circuitry and supply output load current. For the device to operate properly and regulate, the voltage on this pin must be between the dropout voltage and 36V above the OUT (See Datasheet)", 16 OUT (power) "Output. This is the power output of the device. The LT3081 requires a 5mA minimum load current for proper output regulation.", 17 OUT (power) "Output. The exposed pad of the DF and FE packages and the tab of the R and T7 packages are tied internally to OUT. As such, tie them directly to OUT (Pins 1-4/Pins 1-5, 8, 9, 16/Pin 4/Pin 4) at the PCB. The amount of copper (See Datasheet)"

## LT3081IR#PBF
designator U?
1.5 A Single Resistor Rugged Linear Regulator with Monitor, 1.2 to 36 V Vin, Adjustable Vout, 7-pin DPAK (R-7), -40 to 125 degC, Pb-Free; Manufacturer: Linear Technology; PartNumber: LT3081IR#PBF; Discrete Pass Element: no; Dropout Voltage(V): 1.21; Iout(mA): 1500; Isupply(mA): 1.1; Noise(uV): 27; Number of Outputs: 1; Output Voltage: Adj; PSRR(dB): 90; Vin Max(V): 36; Vin Min(V): 1.2; Vout Max(V): 34.5; Vout Min(V): 0; PackageVersion: Rev. F, 05/2012; PackageReference: R-7; PackageDescription: 7-Pin Plastic DD Pak, Body 10.2235 x 8.89 mm, Pitch 1.27 mm; Supplier 1: Digi-Key; Supplier Part Number 1: LT3081IR#PBF-ND; Supplier 2: Newark; Supplier Part Number 2: 94W8452; RoHS: TRUE; Mounting Technology: Surface Mount; ComponentLink1Description: Manufacturer URL; ComponentLink1URL: http://www.linear.com/; ComponentLink2Description: Datasheet; ComponentLink2URL: http://cds.linear.com/docs/en/datasheet/3081f.pdf; ComponentLink3Description: Package Specification; ComponentLink3URL: http://cds.linear.com/docs/en/packaging/05081462_F_R.pdf
footprint LT-R-7_N (DPAK, 7-Leads, Body 10.224x8.89mm, Pitch 1.27mm, IPC Medium Density)
footprint LT-R-7_L (DPAK, 7-Leads, Body 10.224x8.89mm, Pitch 1.27mm, IPC High Density)
footprint LT-R-7_M (DPAK, 7-Leads, Body 10.224x8.89mm, Pitch 1.27mm, IPC Low Density)
pins: 1 ILIM (in) "Current Limit Program. A resistor between this pin and OUT programs output current limit to a level proportional to resistor value. Connect this resistor directly to OUT at the pins of the package. The typical ratio of (See Datasheet)", 2 SET (in) "Set. This pin is the error amplifier’s noninverting input and also sets the operating bias point of the circuit. A fixed 50uA current source flows out of this pin. A single external resistor programs VOUT. Output voltag(See Datasheet)", 3 IMON (out) "Output Current Monitor. The IMON pin sources a current typically equal to ILOAD/5000 or 200uA per amp of output current. Terminating this pin with a resistor to GND produces a voltage proportional to ILOAD. For example, at (See Datasheet)", 4 OUT (power) "Output. This is the power output of the device. The LT3081 requires a 5mA minimum load current for proper output regulation.", 5 TEMP (out) "Temperature Output. This pin delivers a current proportional to the internal average junction temperature. Current output is 1uA/degC for temperatures above 5degC. The TEMP pin output current typically equals 25uA at 25degC. (See Datasheet)", 6 IN (power) "Input. This pin supplies power to regulate internal circuitry and supply output load current. For the device to operate properly and regulate, the voltage on this pin must be between the dropout voltage and 36V above the OUT (See Datasheet)", 7 NC "No Connection. No connect pins have no connection to internal circuitry and may be tied to IN, OUT, GND or floated.", 8 OUT (power) "Output. The exposed pad of the DF and FE packages and the tab of the R and T7 packages are tied internally to OUT. As such, tie them directly to OUT (Pins 1-4/Pins 1-5, 8, 9, 16/Pin 4/Pin 4) at the PCB. The amount of copper (See Datasheet)"

## LT3081IR#TRPBF
designator U?
1.5 A Single Resistor Rugged Linear Regulator with Monitor, 1.2 to 36 V Vin, Adjustable Vout, 7-pin DPAK (R-7), -40 to 125 degC, Pb-Free, Tape and Reel; Manufacturer: Linear Technology; PartNumber: LT3081IR#TRPBF; Discrete Pass Element: no; Dropout Voltage(V): 1.21; Iout(mA): 1500; Isupply(mA): 1.1; Noise(uV): 27; Number of Outputs: 1; Output Voltage: Adj; PSRR(dB): 90; Vin Max(V): 36; Vin Min(V): 1.2; Vout Max(V): 34.5; Vout Min(V): 0; PackageVersion: Rev. F, 05/2012; PackageReference: R-7; PackageDescription: 7-Pin Plastic DD Pak, Body 10.2235 x 8.89 mm, Pitch 1.27 mm; Supplier 1: Digi-Key; Supplier Part Number 1: LT3081IR#TRPBF-ND; Supplier 2: Newark; Supplier Part Number 2: 94W8453; Packing: Tape and Reel; RoHS: TRUE; Mounting Technology: Surface Mount; ComponentLink1Description: Manufacturer URL; ComponentLink1URL: http://www.linear.com/; ComponentLink2Description: Datasheet; ComponentLink2URL: http://cds.linear.com/docs/en/datasheet/3081f.pdf; ComponentLink3Description: Package Specification; ComponentLink3URL: http://cds.linear.com/docs/en/packaging/05081462_F_R.pdf
footprint LT-R-7_N (DPAK, 7-Leads, Body 10.224x8.89mm, Pitch 1.27mm, IPC Medium Density)
footprint LT-R-7_L (DPAK, 7-Leads, Body 10.224x8.89mm, Pitch 1.27mm, IPC High Density)
footprint LT-R-7_M (DPAK, 7-Leads, Body 10.224x8.89mm, Pitch 1.27mm, IPC Low Density)
pins: 1 ILIM (in) "Current Limit Program. A resistor between this pin and OUT programs output current limit to a level proportional to resistor value. Connect this resistor directly to OUT at the pins of the package. The typical ratio of (See Datasheet)", 2 SET (in) "Set. This pin is the error amplifier’s noninverting input and also sets the operating bias point of the circuit. A fixed 50uA current source flows out of this pin. A single external resistor programs VOUT. Output voltag(See Datasheet)", 3 IMON (out) "Output Current Monitor. The IMON pin sources a current typically equal to ILOAD/5000 or 200uA per amp of output current. Terminating this pin with a resistor to GND produces a voltage proportional to ILOAD. For example, at (See Datasheet)", 4 OUT (power) "Output. This is the power output of the device. The LT3081 requires a 5mA minimum load current for proper output regulation.", 5 TEMP (out) "Temperature Output. This pin delivers a current proportional to the internal average junction temperature. Current output is 1uA/degC for temperatures above 5degC. The TEMP pin output current typically equals 25uA at 25degC. (See Datasheet)", 6 IN (power) "Input. This pin supplies power to regulate internal circuitry and supply output load current. For the device to operate properly and regulate, the voltage on this pin must be between the dropout voltage and 36V above the OUT (See Datasheet)", 7 NC "No Connection. No connect pins have no connection to internal circuitry and may be tied to IN, OUT, GND or floated.", 8 OUT (power) "Output. The exposed pad of the DF and FE packages and the tab of the R and T7 packages are tied internally to OUT. As such, tie them directly to OUT (Pins 1-4/Pins 1-5, 8, 9, 16/Pin 4/Pin 4) at the PCB. The amount of copper (See Datasheet)"

## LT3081IT7#PBF
designator U?
1.5 A Single Resistor Rugged Linear Regulator with Monitor, 1.2 to 36 V Vin, Adjustable Vout, 7-pin FM (T7-7-S), -40 to 125 degC, Pb-Free; Manufacturer: Linear Technology; PartNumber: LT3081IT7#PBF; Discrete Pass Element: no; Dropout Voltage(V): 1.21; Iout(mA): 1500; Isupply(mA): 1.1; Noise(uV): 27; Number of Outputs: 1; Output Voltage: Adj; PSRR(dB): 90; Vin Max(V): 36; Vin Min(V): 1.2; Vout Max(V): 34.5; Vout Min(V): 0; PackageVersion: Jun-10; PackageReference: T7-7; PackageDescription: 7-Pin Plastic TO-220 (Straight Lead), Body 10.224 x 4.382 mm, Pitch 1.27 mm; Supplier 1: Digi-Key; Supplier Part Number 1: LT3081IT7#PBF-ND; Supplier 2: Newark; Supplier Part Number 2: 94W8454; RoHS: TRUE; Mounting Technology: Through Hole; ComponentLink1Description: Manufacturer URL; ComponentLink1URL: http://www.linear.com/; ComponentLink2Description: Datasheet; ComponentLink2URL: http://cds.linear.com/docs/en/datasheet/3081f.pdf; ComponentLink3Description: Package Specification; ComponentLink3URL: http://www.linear.com/docs/en/packaging/TO-220_7_05-08-1422_STRAIGHT_LEAD.pdf
footprint LT-T7-7-S_V (FM, 7-Leads, Body 10.55x4.6mm, Pitch 1.27mm)
pins: 1 ILIM (in) "Current Limit Program. A resistor between this pin and OUT programs output current limit to a level proportional to resistor value. Connect this resistor directly to OUT at the pins of the package. The typical ratio of (See Datasheet)", 2 SET (in) "Set. This pin is the error amplifier’s noninverting input and also sets the operating bias point of the circuit. A fixed 50uA current source flows out of this pin. A single external resistor programs VOUT. Output voltag(See Datasheet)", 3 IMON (out) "Output Current Monitor. The IMON pin sources a current typically equal to ILOAD/5000 or 200uA per amp of output current. Terminating this pin with a resistor to GND produces a voltage proportional to ILOAD. For example, at (See Datasheet)", 4 OUT (power) "Output. This is the power output of the device. The LT3081 requires a 5mA minimum load current for proper output regulation.", 5 TEMP (out) "Temperature Output. This pin delivers a current proportional to the internal average junction temperature. Current output is 1uA/degC for temperatures above 5degC. The TEMP pin output current typically equals 25uA at 25degC. (See Datasheet)", 6 IN (power) "Input. This pin supplies power to regulate internal circuitry and supply output load current. For the device to operate properly and regulate, the voltage on this pin must be between the dropout voltage and 36V above the OUT (See Datasheet)", 7 NC "No Connection. No connect pins have no connection to internal circuitry and may be tied to IN, OUT, GND or floated."